# Altium schematic symbol library DF40GB-30DP-0.4V.Schlib: 1 symbol
Pins are listed as number, name and electrical type; pins without a type are passive.

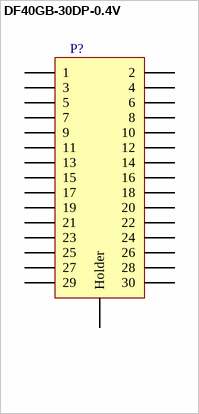
[diagram p0: symbol DF40GB-30DP-0.4V]

## DF40GB-30DP-0.4V
designator P?
DF40 USB4 Compatible Plug
pins: 1, 2, 3, 4, 5, 6, 7, 8, 9, 10, 11, 12, 13, 14, 15, 16, 17, 18, 19, 20, 21, 22, 23, 24, 25, 26, 27, 28, 29, 30, 31 Holder